# EAGLE library part E73-2G4M04S (library E73-2G4M04S)
NRF52 Module With Antenna (taobao supplier <https://item.taobao.com/item.htm?id=553764237720>) variants: 1A: NRF52810 <http://www.ebyte.com/product-view-news.aspx?id=305> FLASH: 192kb RAM: 24kb CORE: ARM Cortex-M4 1B: NRF52832 <http://www.ebyte.com/product-view-news.aspx?id=239> FLASH: 512kb RAM: 64kb CORE: ARM Cortex-M4F 1D: NRF51822 <http://www.ebyte.com/product-view-news.aspx?id=303> FLASH: 256kb RAM: 16kb CORE: ARM Cortex-M0
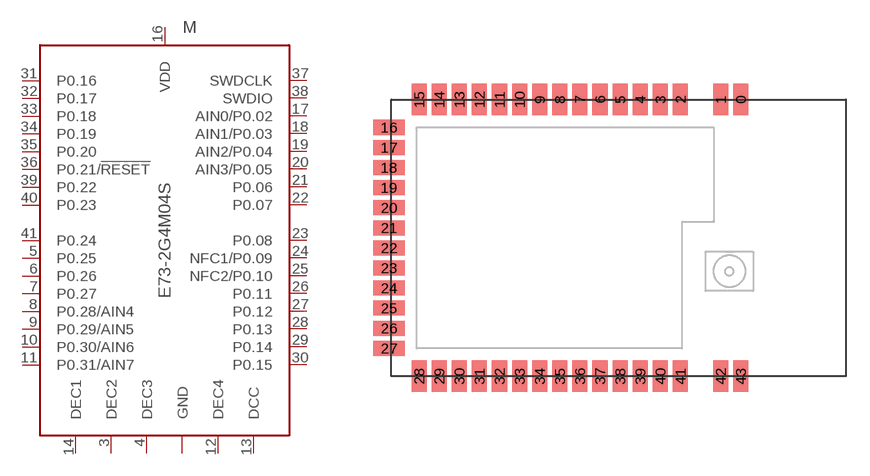
[diagram p0: symbol with the pads of E73-2G4M04S; footprint E73-2G4M04S]

Designator prefix M

## E73-2G4M04S1B (MF: Chengdu Ebyte / 亿佰特; MPN: E73-2G4M04S1B)  [E73-2G4M04S]
0  GND  pwr
1  GND  pwr
2  GND  pwr
3  DEC2
4  DEC3
5  P0.25
6  P0.26
7  P0.27
8  P0.28/AIN4
9  P0.29/AIN5
10  P0.30/AIN6
11  P0.31/AIN7
12  DEC4
13  DCC
14  DEC1
15  GND  pwr
16  VDD  pwr
17  AIN0/P0.02
18  AIN1/P0.03
19  AIN2/P0.04
20  AIN3/P0.05
21  P0.06
22  P0.07
23  P0.08
24  NFC1/P0.09
25  NFC2/P0.10
26  P0.11
27  P0.12
28  P0.13
29  P0.14
30  P0.15
31  P0.16
32  P0.17
33  P0.18
34  P0.19
35  P0.20
36  P0.21/!RESET
37  SWDCLK  in
38  SWDIO
39  P0.22
40  P0.23
41  P0.24
42  GND  pwr
43  GND  pwr

## E73-2G4M04S1A (MF: Chengdu Ebyte / 亿佰特; MPN: E73-2G4M04S1A)  [E73-2G4M04S]
Pads as for E73-2G4M04S

## Footprint E73-2G4M04S (pad centres in mm)
smd 0.95 x 2: 0 7.715,8.75; 1 6.445,8.75; 2 3.905,8.75; 3 2.635,8.75; 4 1.365,8.75; 5 0.095,8.75; 6 -1.175,8.75; 7 -2.445,8.75; 8 -3.715,8.75; 9 -4.985,8.75; 10 -6.255,8.75; 11 -7.525,8.75; 12 -8.795,8.75; 13 -10.065,8.75; 14 -11.335,8.75; 15 -12.605,8.75; 28 -12.605,-8.75; 29 -11.335,-8.75; 30 -10.065,-8.75; 31 -8.795,-8.75; 32 -7.525,-8.75; 33 -6.255,-8.75; 34 -4.985,-8.75; 35 -3.715,-8.75; 36 -2.445,-8.75; 37 -1.175,-8.75; 38 0.095,-8.75; 39 1.365,-8.75; 40 2.635,-8.75; 41 3.905,-8.75; 42 6.445,-8.75; 43 7.715,-8.75
smd 2 x 0.95: 16 -14.5,6.985; 17 -14.5,5.715; 18 -14.5,4.445; 19 -14.5,3.175; 20 -14.5,1.905; 21 -14.5,0.635; 22 -14.5,-0.635; 23 -14.5,-1.905; 24 -14.5,-3.175; 25 -14.5,-4.445; 26 -14.5,-5.715; 27 -14.5,-6.985